# Altium footprint library Components - 23.04.26 - 14.50.PcbLib: 1 footprints
Each footprint in its own frame and in the unit in brackets; x right, y up, seen from the top. Pads: shape width x height; smd on the part's side, far side on the other; paste and mask are expansions set on the pad; w line width, h text height; cw(c..) or ccw(c..) is an arc to the next point about the centre after c.
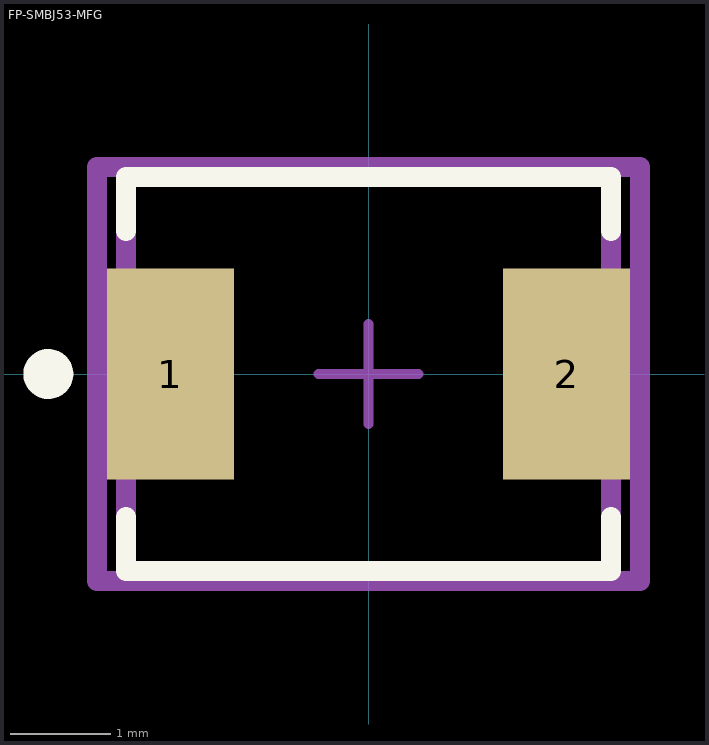
[diagram p0: the footprint, top view; thin cyan lines are the x and y axes]

## FP-SMBJ53-MFG [mm]
pads (2):
  rect 1.27x2.11 smd paste+0 mask+0: 1(-1.98,0) 2(1.98,0)
Top Overlay:
  circle w0.25: c-3.2,0 r0.125
  lines w0.2: -2.425,-1.43 -2.425,-1.97 2.425,-1.97 2.425,-1.43 ; -2.425,1.43 -2.425,1.97 2.425,1.97 2.425,1.43
Top Assembly:
  lines w0.2: -2.715,-2.07 -2.715,2.07 2.715,2.07 2.715,-2.07 -2.715,-2.07
  text ".Designator" at 0,0.188 h1
Top 3D Body:
  lines w0.2: -2.425,-1.97 -2.425,1.97 2.425,1.97 2.425,-1.97 -2.425,-1.97
Top Courtyard:
  lines w0.2: -2.715,-2.07 -2.715,2.07 2.715,2.07 2.715,-2.07 -2.715,-2.07
Top Component Center:
  lines w0.1: -0.5,0 0.5,0 ; 0,-0.5 0,0.5
3D body "Diode_MCC_SMBJ5361B-TP_eec.STEP": height 0.25, standoff 0, extent -2.715,-2.07 2.715,2.07